# EAGLE library part POT_CTSJOYSTICK (library SENSORPARTS)
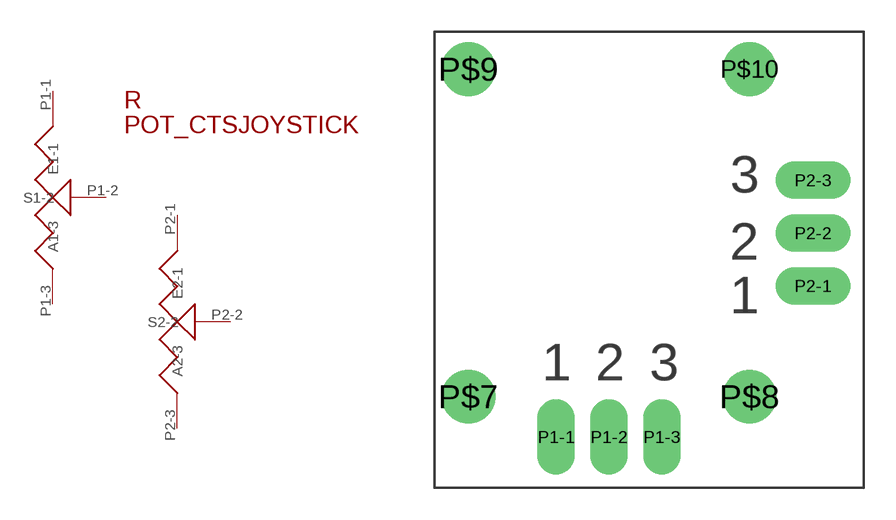
[diagram p0: symbol with the pads of POT_CTSJOYSTICK; footprint POT_CTSJOYSTICK]

Designator prefix R

## POT_CTSJOYSTICK  [POT_CTSJOYSTICK]
P1-1  E1-1  pas
P1-2  S1-2  pas
P1-3  A1-3  pas
P2-1  E2-1  pas
P2-2  S2-2  pas
P2-3  A2-3  pas

## Footprint POT_CTSJOYSTICK (pad centres in mm)
drill 1 pad 1.778 long: P1-1 -2.5,-9.65; P1-2 0,-9.65; P1-3 2.5,-9.65; P2-1 9.65,-2.5; P2-2 9.65,0; P2-3 9.65,2.5
drill 1.3 pad 2.54 round: P$7 -6.65,-7.75; P$8 6.65,-7.75; P$9 -6.65,7.75; P$10 6.65,7.75